# Altium schematic symbol library USB2517.SchLib: 1 symbol
Pins are listed as number, name and electrical type; pins without a type are passive.

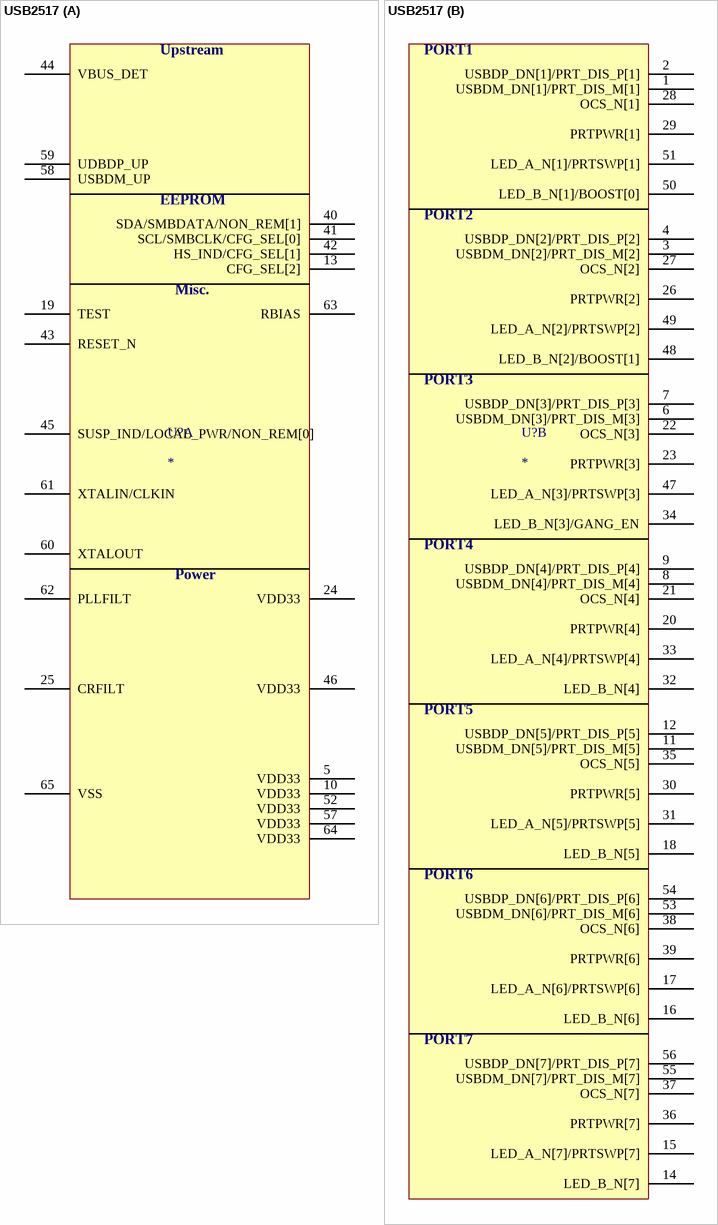
[diagram p0: symbol USB2517]

## USB2517
designator U?
USB2517 - High Speed USB2.0 7-port Hub; Manufacturer: SMSC; Vendor: Nu Horizons; Part No.: USB2517; Price Est.: $4.089
footprint QFN 64-Pin 9x9mm Body 0.5mm Pitch (QFN, 64-Leads, Body 9x9mm, Pitch 0.50mm)
part A pins: 5 VDD33, 10 VDD33, 13 CFG_SEL[2], 19 TEST, 24 VDD33, 25 CRFILT, 40 SDA/SMBDATA/NON_REM[1], 41 SCL/SMBCLK/CFG_SEL[0], 42 HS_IND/CFG_SEL[1], 43 RESET_N, 44 VBUS_DET, 45 SUSP_IND/LOCAL_PWR/NON_REM[0], 46 VDD33, 52 VDD33, 57 VDD33, 58 USBDM_UP, 59 UDBDP_UP, 60 XTALOUT, 61 XTALIN/CLKIN, 62 PLLFILT, 63 RBIAS, 64 VDD33, 65 VSS
part B pins: 1 USBDM_DN[1]/PRT_DIS_M[1], 2 USBDP_DN[1]/PRT_DIS_P[1], 3 USBDM_DN[2]/PRT_DIS_M[2], 4 USBDP_DN[2]/PRT_DIS_P[2], 6 USBDM_DN[3]/PRT_DIS_M[3], 7 USBDP_DN[3]/PRT_DIS_P[3], 8 USBDM_DN[4]/PRT_DIS_M[4], 9 USBDP_DN[4]/PRT_DIS_P[4], 11 USBDM_DN[5]/PRT_DIS_M[5], 12 USBDP_DN[5]/PRT_DIS_P[5], 14 LED_B_N[7], 15 LED_A_N[7]/PRTSWP[7], 16 LED_B_N[6], 17 LED_A_N[6]/PRTSWP[6], 18 LED_B_N[5], 20 PRTPWR[4], 21 OCS_N[4], 22 OCS_N[3], 23 PRTPWR[3], 26 PRTPWR[2], 27 OCS_N[2], 28 OCS_N[1], 29 PRTPWR[1], 30 PRTPWR[5], 31 LED_A_N[5]/PRTSWP[5], 32 LED_B_N[4], 33 LED_A_N[4]/PRTSWP[4], 34 LED_B_N[3]/GANG_EN, 35 OCS_N[5], 36 PRTPWR[7], 37 OCS_N[7], 38 OCS_N[6], 39 PRTPWR[6], 47 LED_A_N[3]/PRTSWP[3], 48 LED_B_N[2]/BOOST[1], 49 LED_A_N[2]/PRTSWP[2], 50 LED_B_N[1]/BOOST[0], 51 LED_A_N[1]/PRTSWP[1], 53 USBDM_DN[6]/PRT_DIS_M[6], 54 USBDP_DN[6]/PRT_DIS_P[6], 55 USBDM_DN[7]/PRT_DIS_M[7], 56 USBDP_DN[7]/PRT_DIS_P[7]
part A text: Upstream; EEPROM; Misc.; Power
part B text: PORT1; PORT2; PORT3; PORT4; PORT5; PORT6; PORT7